# Altium schematic symbol library pass_comp.SchLib: 1 symbol
Pins are listed as number, name and electrical type; pins without a type are passive.

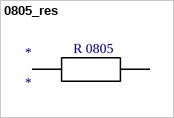
[diagram p0: symbol 0805_res]

## 0805_res
designator *
footprint RES_0805 (0805)
pins: pad1, pad2
text: R 0805